# EAGLE library part CON-HARTING_CON10 (library mainboard-v4aW-jlcpcb)
CONNECTOR
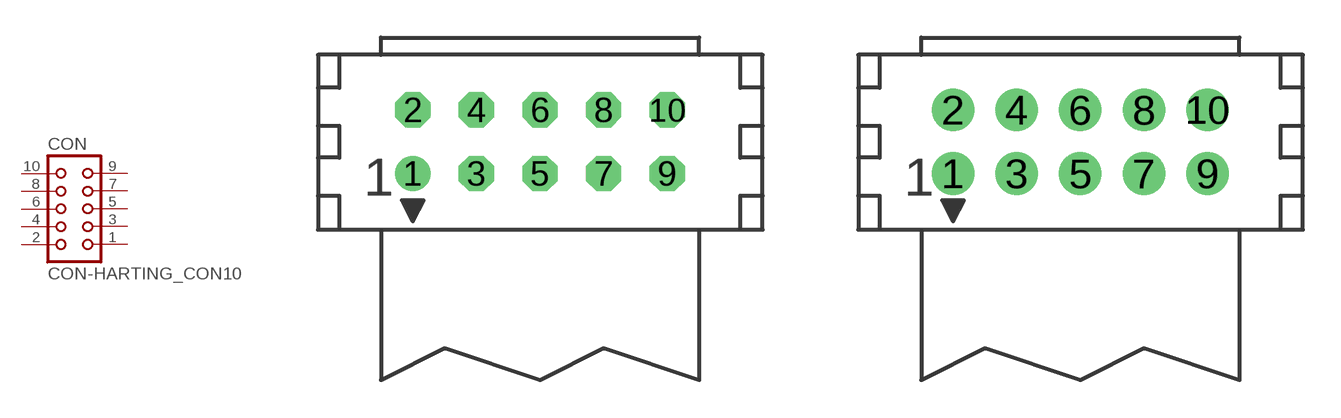
[diagram p1: symbol with the pads of CON-HARTING_CON10; footprints CON-HARTING_CON10, CON-HARTING_CON10-NS]

Designator prefix CON

## CON-HARTING_CON10 (OC_FARNELL: unknown; OC_NEWARK: unknown)  [CON-HARTING_CON10]
1  1  pas
2  2  pas
3  3  pas
4  4  pas
5  5  pas
6  6  pas
7  7  pas
8  8  pas
9  9  pas
10  10  pas

## CON-HARTING_CON10NS  [CON-HARTING_CON10-NS]
Pads as for CON-HARTING_CON10

## CON-HARTING_CON10ML  [ML10-NS]
Pads as for CON-HARTING_CON10

## CON-HARTING_CON1008  [ML10-NS08]
Pads as for CON-HARTING_CON10

## CON-HARTING_CON1008B  [ML10-NS08B]
Pads as for CON-HARTING_CON10

## Footprint CON-HARTING_CON10 (pad centres in mm)
CONNECTOR
drill 0.9: 1 -5.08,-1.27
drill 0.9 octagon: 2 -5.08,1.27; 3 -2.54,-1.27; 4 -2.54,1.27; 5 0,-1.27; 6 0,1.27; 7 2.54,-1.27; 8 2.54,1.27; 9 5.08,-1.27; 10 5.08,1.27

## Footprint CON-HARTING_CON10-NS (pad centres in mm)
drill 0.9 pad 1.7: 1 -5.08,-1.27; 2 -5.08,1.27; 3 -2.54,-1.27; 4 -2.54,1.27; 5 0,-1.27; 6 0,1.27; 7 2.54,-1.27; 8 2.54,1.27; 9 5.08,-1.27; 10 5.08,1.27

## Footprint ML10-NS (pad centres in mm)
drill 0.9 pad 1.7: 1 -5.08,-1.27; 2 -5.08,1.27; 3 -2.54,-1.27; 4 -2.54,1.27; 5 0,-1.27; 6 0,1.27; 7 2.54,-1.27; 8 2.54,1.27; 9 5.08,-1.27; 10 5.08,1.27

## Footprint ML10-NS08 (pad centres in mm)
drill 0.8 pad 1.7: 1 -5.08,-1.27; 2 -5.08,1.27; 3 -2.54,-1.27; 4 -2.54,1.27; 5 0,-1.27; 6 0,1.27; 7 2.54,-1.27; 8 2.54,1.27; 9 5.08,-1.27; 10 5.08,1.27

## Footprint ML10-NS08B (pad centres in mm)
drill 0.8 pad 2.2: 1 -5.08,-1.27; 2 -5.08,1.27; 3 -2.54,-1.27; 4 -2.54,1.27; 5 0,-1.27; 6 0,1.27; 7 2.54,-1.27; 8 2.54,1.27; 9 5.08,-1.27; 10 5.08,1.27